# Altium footprint library Connectors.PcbLib: 18 footprints (part 1 of 2)
Each footprint in its own frame and in the unit in brackets; x right, y up, seen from the top. Pads: shape width x height; smd on the part's side, far side on the other; paste and mask are expansions set on the pad; w line width, h text height; cw(c..) or ccw(c..) is an arc to the next point about the centre after c.
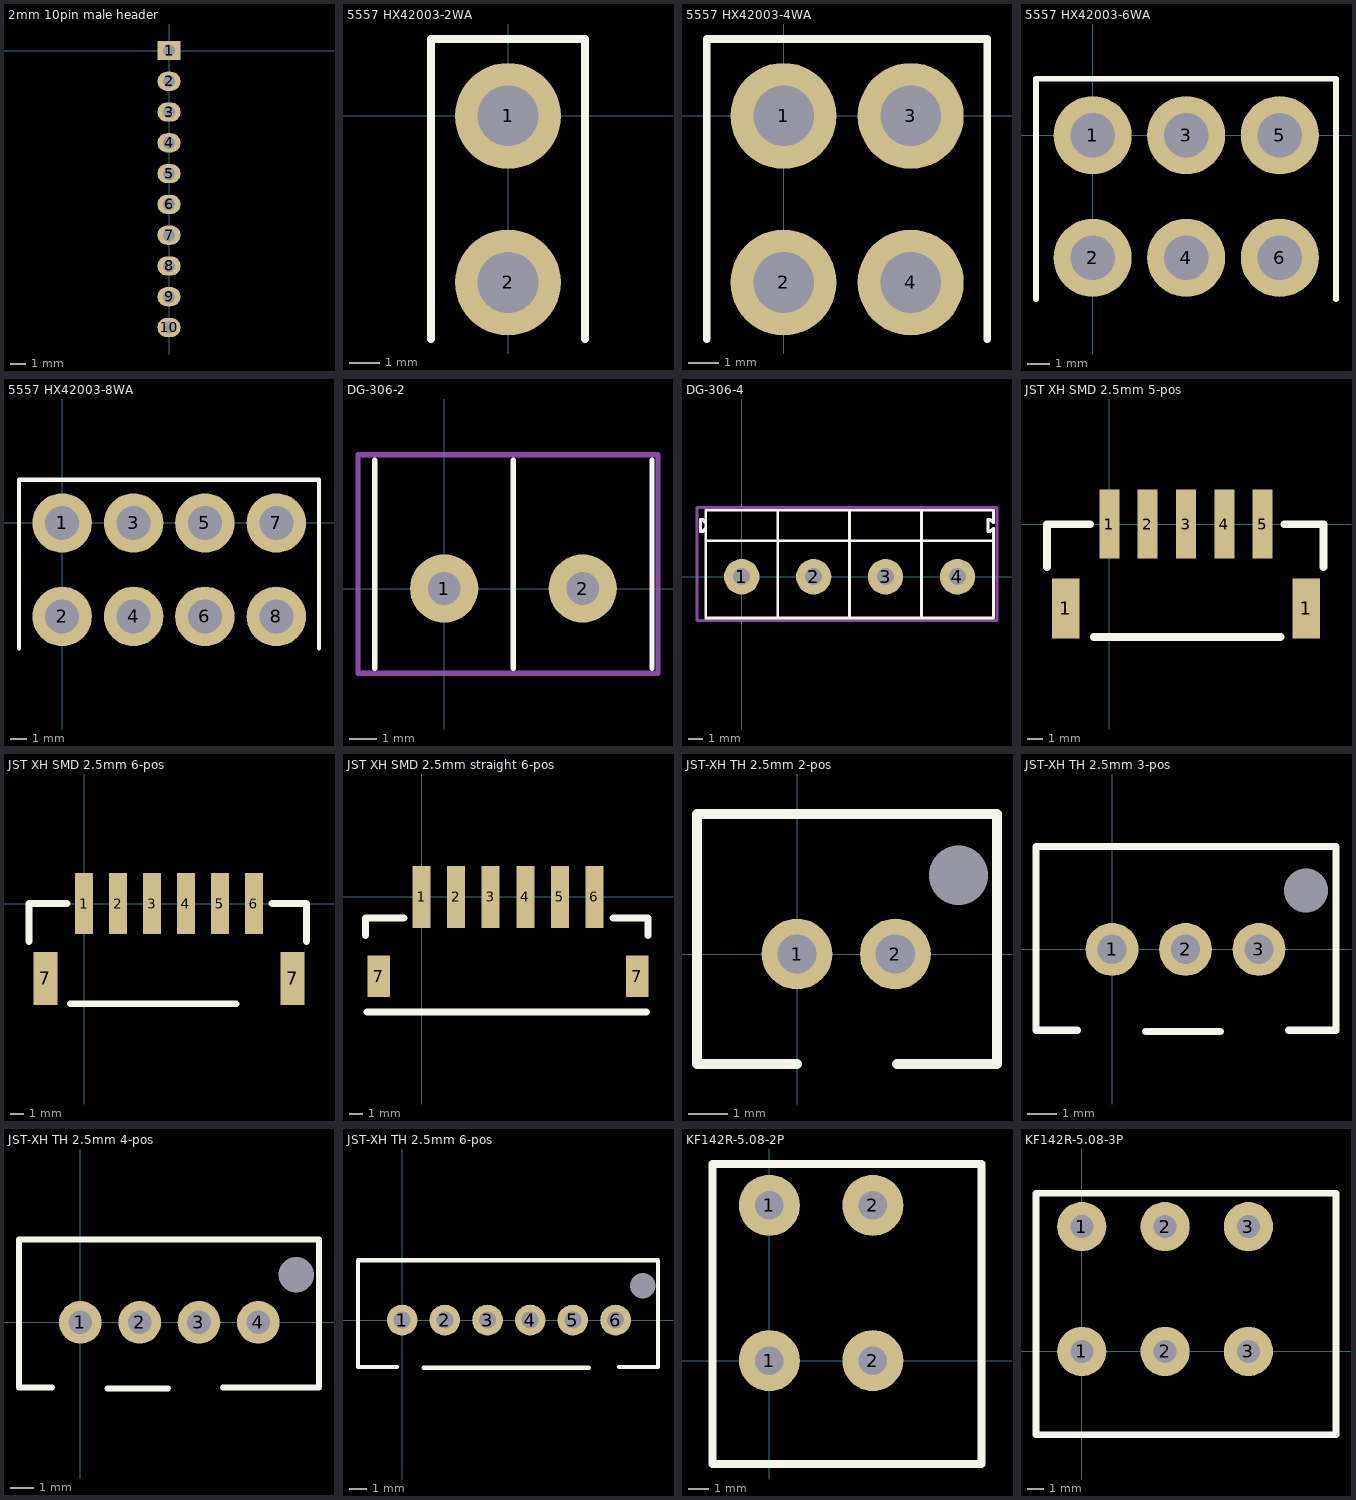
[diagram p0: the footprints below, top view; thin cyan lines are the x and y axes]

## 2mm 10pin male header [mm]
pads (10):
  rrect10% 1.5x1.25 hole 0.8 paste+0: 1(0,0)
  oval 1.5x1.25 hole 0.8 paste+0: 2(0,-2) 3(0,-4) 4(0,-6) 5(0,-8) 6(0,-10) 7(0,-12) 8(0,-14) 9(0,-16) 10(0,-18)
3D body "2mm male header.SLDPRT": height 6, standoff -1.67, extent -1,-19 1,1

## 5557 HX42003-2WA [mm]
height 10
pads (2):
  round 3.5 hole 2: 1(0,0) 2(0,-5.5)
Top Overlay:
  lines w0.254: -2.54,-7.366 -2.54,2.54 2.54,2.54 2.54,-7.366
3D body: height 9.7, standoff 0, extent -2.54,-19.05 2.54,-7.493

## 5557 HX42003-4WA [mm]
height 10
pads (4):
  round 3.5 hole 2: 1(0,0) 2(0,-5.5) 3(4.2,0) 4(4.2,-5.5)
Top Overlay:
  lines w0.254: -2.54,-7.366 -2.54,2.54 6.731,2.54 6.731,-7.366
3D body: height 9.7, standoff 0, extent -2.54,-19.05 6.731,-7.493

## 5557 HX42003-6WA [mm]
height 10
pads (6):
  round 3.5 hole 2: 1(0,0) 2(0,-5.5) 3(4.2,0) 4(4.2,-5.5) 5(8.4,0) 6(8.4,-5.5)
Top Overlay:
  lines w0.254: -2.54,-7.366 -2.54,2.54 10.922,2.54 10.922,-7.366
3D body: height 9.7, standoff 0, extent -2.54,-19.05 10.922,-7.493

## 5557 HX42003-8WA [mm]
height 10
pads (8):
  round 3.5 hole 2: 1(0,0) 2(0,-5.5) 3(4.2,0) 4(4.2,-5.5) 5(8.4,0) 6(8.4,-5.5) 7(12.6,0) 8(12.6,-5.5)
Top Overlay:
  lines w0.254: -2.54,-7.366 -2.54,2.54 15.113,2.54 15.113,-7.366
3D body: height 9.7, standoff 0, extent -2.54,-19.05 15.113,-7.493

## DG-306-2 [mm]
pads (2):
  round 2.5 hole 1.2: 1(0,0) 2(5.08,0)
Top Overlay:
  lines w0.2: -2.54,-2.921 -2.54,4.699 ; 2.54,-2.921 2.54,4.699 ; 7.62,-2.921 7.62,4.699
Mechanical 15:
  lines w0.2: -3.16,-3.1 7.84,-3.1 7.84,4.9 -3.16,4.9 -3.16,-3.1
3D body "User Library-Terminal-Screw-3A-2way.step": height 10, standoff -3, extent -3.01,-2.925 7.59,4.675

## DG-306-4 [mm]
pads (4):
  round 2.5 hole 1.2: 1(0,0) 2(5.08,0) 3(10.16,0) 4(15.24,0)
Top Overlay:
  lines w0.2: -2.54,2.54 17.78,2.54 ; -2.54,3.429 -2.794,3.175 -2.921,3.175 -2.921,4.064 -2.794,4.064 -2.54,3.81 ; 2.54,-2.921 2.54,4.699 ; 7.62,-2.921 7.62,4.699 ; 12.7,-2.921 12.7,4.699 ; -2.54,-2.921 -2.54,4.699 17.78,4.699 17.78,3.81 17.526,4.064 17.399,4.064 17.399,3.175 17.526,3.175 17.78,3.429 17.78,-2.921 -2.54,-2.921
Mechanical 15:
  lines w0.2: -3.16,-3.1 18.034,-3.1 18.034,4.9 -3.16,4.9 -3.16,-3.1
3D body "User Library-Terminal-Screw-3A-2way.step": height 10, standoff -3, extent -3.01,-2.925 7.59,4.675
3D body "User Library-Terminal-Screw-3A-2way.step": height 10, standoff -3, extent 7.15,-2.925 17.75,4.675

## JST XH SMD 2.5mm 5-pos [mm]
pads (7):
  rect 1.8x3.9 smd: 1(-2.84,-5.5) 1(12.84,-5.5)
  rect 1.3x4.5 smd: 1(0,0) 2(2.5,0) 3(5,0) 4(7.5,0) 5(10,0)
Top Overlay:
  lines w0.508: -4.064,-2.794 -4.064,0 -1.27,0 ; -1.016,-7.366 11.176,-7.366 ; 11.43,0 13.97,0 13.97,-2.794
3D body "JST - XH - SMD (R) - 5Pin - 2.54mm.stp": height 5.92, standoff 0, extent -3.924,-7.874 13.83,2.032

## JST XH SMD 2.5mm 6-pos [mm]
pads (8):
  rect 1.3x4.5 smd: 1(0,0) 2(2.5,0) 3(5,0) 4(7.5,0) 5(10,0) 6(12.5,0)
  rect 1.8x3.9 smd: 7(-2.84,-5.5) 7(15.34,-5.5)
Top Overlay:
  lines w0.508: -4.064,-2.794 -4.064,0 -1.27,0 ; -1.016,-7.366 11.176,-7.366 ; 13.843,0.02 16.383,0.02 16.383,-2.774
3D body "JST - XH - SMD (R) - 6Pin - 2.54mm.stp": height 5.92, standoff 0, extent -3.924,-7.747 16.37,2.159

## JST XH SMD 2.5mm straight 6-pos [mm]
pads (8):
  rect 1.3x4.5 smd: 1(0,0) 2(2.5,0) 3(5,0) 4(7.5,0) 5(10,0) 6(12.5,0)
  rect 1.6x3 smd: 7(-3.1,-5.75) 7(15.6,-5.75)
Top Overlay:
  lines w0.508: -4.064,-2.794 -4.064,-1.524 -1.27,-1.524 ; -3.937,-8.331 16.256,-8.331 ; 13.843,-1.524 16.383,-1.524 16.383,-2.774
3D body: height 5.92, standoff 0, extent 0,0 0,0

## JST-XH TH 2.5mm 2-pos [mm]
pads (3):
  round 1.8 hole 1: 1(0,0) 2(2.5,0)
  round 0 hole 1.5 unplated: 1(4.1,2)
Top Overlay:
  lines w0.254: 0,-2.794 -2.54,-2.794 -2.54,3.556 5.08,3.556 5.08,-2.794 2.54,-2.794
3D body "JST - XH - Thru - 2Pin - 2.5mm (Genuine).stp": height 7.21, standoff -3, extent -2.317,-2.489 4.857,3.353

## JST-XH TH 2.5mm 3-pos [mm]
pads (4):
  round 1.8 hole 1: 1(0,0) 2(2.5,0) 3(5,0)
  round 0 hole 1.5 unplated: 1(6.6,2)
Top Overlay:
  lines w0.254: -1.187,-2.75 -2.587,-2.75 -2.587,3.5 7.62,3.5 7.62,-2.748 6.015,-2.748 ; 1.143,-2.794 3.683,-2.794
3D body "JST - XH - Thru (V) - 3Pin - 2.54mm.x_t": height 7.21, standoff -3, extent -2.337,-2.489 7.417,3.353

## JST-XH TH 2.5mm 4-pos [mm]
pads (5):
  round 1.8 hole 1: 1(0,0) 2(2.5,0) 3(5,0) 4(7.5,0)
  round 0 hole 1.5 unplated: 1(9.1,2)
Top Overlay:
  lines w0.254: -1.187,-2.75 -2.587,-2.75 -2.587,3.5 10.058,3.5 10.058,-2.748 6.015,-2.748 ; 1.143,-2.794 3.683,-2.794
3D body "JST - XH - Thru - 4Pin - 2.5mm (Genuine).stp": height 7.21, standoff -3, extent -2.387,-2.489 9.787,3.353

## JST-XH TH 2.5mm 6-pos [mm]
pads (7):
  round 1.8 hole 1: 1(0,0) 2(2.5,0) 3(5,0) 4(7.5,0) 5(10,0) 6(12.5,0)
  round 0 hole 1.5 unplated: 1(14.1,2)
Top Overlay:
  lines w0.254: -0.301,-2.75 -2.587,-2.75 -2.587,3.5 14.986,3.5 14.986,-2.748 12.7,-2.748 ; 1.27,-2.794 10.922,-2.794
3D body "JST - XH - Thru - 6Pin - 2.5mm (Genuine).stp": height 7.21, standoff -3, extent -2.364,-2.489 14.81,3.353

## KF142R-5.08-2P [mm]
pads (4):
  round 3 hole 1.4: 1(0,0) 1(0,7.62) 2(5.08,0) 2(5.08,7.62)
Top Overlay:
  lines w0.4: -2.794,-5.08 10.414,-5.08 10.414,9.652 -2.794,9.652 -2.794,-5.08
3D body "KF142R-5.08-2P.SLDPRT": height 13.4, standoff -3.5, extent -2.44,-4.73 10.16,9.37

## KF142R-5.08-3P [mm]
pads (6):
  round 3 hole 1.4: 1(0,0) 1(0,7.62) 2(5.08,0) 2(5.08,7.62) 3(10.16,0) 3(10.16,7.62)
Top Overlay:
  lines w0.4: -2.794,-5.08 -2.794,9.652 15.5,9.652 15.5,-5.08 -2.794,-5.08
3D body "KF142R-5.08-3P.x_t": height 13.4, standoff -3.5, extent -2.44,-4.73 15.24,9.37